# Altium footprint library All.PcbLib: 21 footprints (part 2 of 2)
Each footprint in its own frame and in the unit in brackets; x right, y up, seen from the top. Pads: shape width x height; smd on the part's side, far side on the other; paste and mask are expansions set on the pad; w line width, h text height; cw(c..) or ccw(c..) is an arc to the next point about the centre after c.
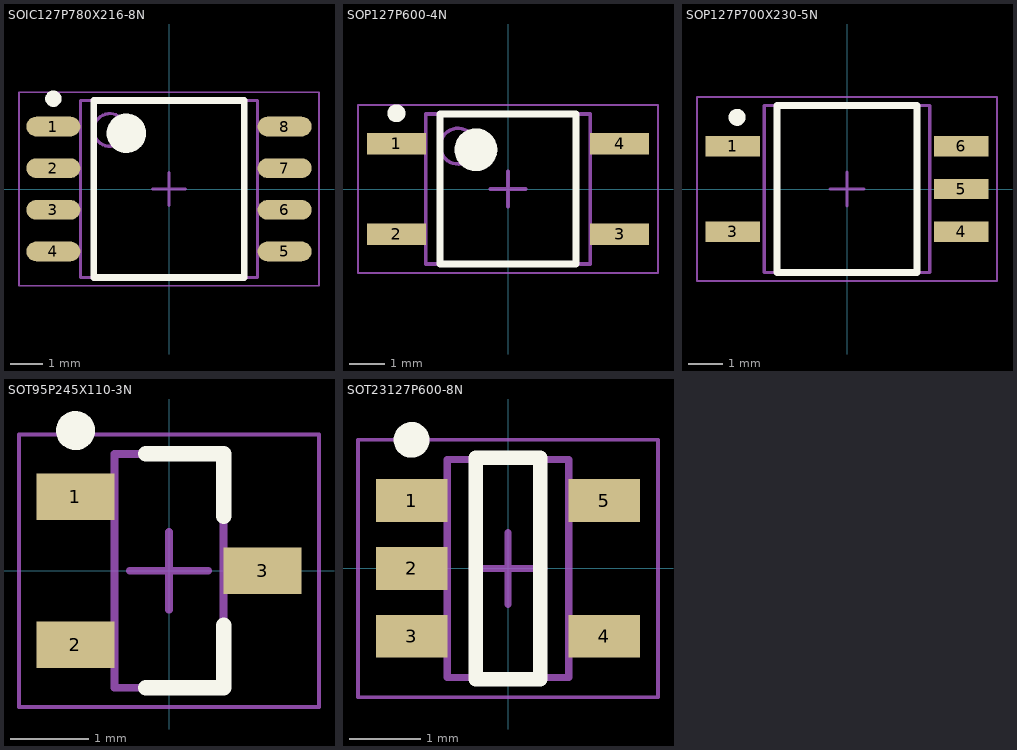
[diagram p1: the footprints below, top view; thin cyan lines are the x and y axes]

## SOIC127P780X216-8N [mm] "SOIC, 8-Leads, Body 5,28x5,28mm, Pitch 1,27mm, IPC Medium Density"
height 2.16
pads (8):
  oval 1.65x0.6 smd: 1(-3.525,1.905) 2(-3.525,0.635) 3(-3.525,-0.635) 4(-3.525,-1.905) 5(3.525,-1.905) 6(3.525,-0.635) 7(3.525,0.635) 8(3.525,1.905)
Top Overlay:
  circle w0.6: c-1.3,1.7 r0.3
  circle w0.25: c-3.525,2.755 r0.125
  lines w0.2: -2.3,-2.7 2.3,-2.7 2.3,2.7 -2.3,2.7 -2.3,-2.7
Top Assembly:
  circle w0.1: c-1.8,1.8 r0.5
  lines w0.1: -2.7,-2.7 2.7,-2.7 2.7,2.7 -2.7,2.7 -2.7,-2.7
Top Courtyard:
  lines w0.05: -4.575,-2.95 4.575,-2.95 4.575,2.95 -4.575,2.95 -4.575,-2.95
  lines w0.1: -0.5,0 0.5,0 ; 0,-0.5 0,0.5
3D body "SOIC127P780X216-8N.step": height 2.16, standoff 0, extent -3.9,-2.7 3.9,2.7

## SOP127P600-4N [mm] "VOM617A, SOP-4 Mini Flat Pack"
height 2.4
pads (4):
  rect 1.65x0.6 smd: 1(-3.125,1.27) 2(-3.125,-1.27) 3(3.125,-1.27) 4(3.125,1.27)
Top Overlay:
  circle w0.6: c-0.9,1.1 r0.3
  circle w0.25: c-3.125,2.12 r0.125
  lines w0.2: -1.9,-2.1 1.9,-2.1 1.9,2.1 -1.9,2.1 -1.9,-2.1
Top Assembly:
  circle w0.1: c-1.4,1.2 r0.5
  lines w0.1: -2.3,-2.1 2.3,-2.1 2.3,2.1 -2.3,2.1 -2.3,-2.1
Top Courtyard:
  lines w0.05: -4.2,-2.35 4.2,-2.35 4.2,2.35 -4.2,2.35 -4.2,-2.35
  lines w0.1: -0.5,0 0.5,0 ; 0,-0.5 0,0.5
3D body "SOP127P600-8N.step": height 2.4, standoff 0, extent -3.375,-2.1 3.375,2.1

## SOP127P700X230-5N [mm] "VOM453, SOP-5, 5-Leads, Body 4,53x7,00mm, Pitch 1,27mm, IPC Medium Density"
height 2.3
pads (5):
  rect 1.6x0.6 smd: 1(-3.35,1.25) 3(-3.35,-1.25) 4(3.35,-1.25) 5(3.35,0) 6(3.35,1.25)
Top Overlay:
  circle w0.25: c-3.225,2.1 r0.125
  lines w0.2: -2.05,-2.45 -2.05,2.45 2.05,2.45 2.05,-2.45 -2.05,-2.45
Top Assembly:
  lines w0.1: -2.425,-2.45 2.425,-2.45 2.425,2.45 -2.425,2.45 -2.425,-2.45
Top Courtyard:
  lines w0.05: -4.4,-2.7 4.4,-2.7 4.4,2.7 -4.4,2.7 -4.4,-2.7
  lines w0.1: -0.5,0 0.5,0 ; 0,-0.5 0,0.5
3D body "SOP127P700X230-5N.step": height 2.3, standoff 0, extent -3.65,-2.45 3.65,2.45

## SOT95P245X110-3N [mm] "SOT23, 3-Leads, Body 2,90x2,45mm, Pitch 0,95mm, IPC Medium Density"
height 1.1
pads (3):
  rect 1x0.6 smd: 1(-1.2,0.95) 2(-1.2,-0.95) 3(1.2,0)
Top Overlay:
  circle w0.25: c-1.2,1.8 r0.125
  lines w0.2: -0.3,-1.5 0.7,-1.5 0.7,-0.7 ; -0.3,1.5 0.7,1.5 0.7,0.7
Top Assembly:
  lines w0.1: -0.7,-1.5 -0.7,1.5 0.7,1.5 0.7,-1.5 -0.7,-1.5
Top Courtyard:
  lines w0.05: -1.925,-1.75 -1.925,1.75 1.925,1.75 1.925,-1.75 -1.925,-1.75
  lines w0.1: -0.5,0 0.5,0 ; 0,-0.5 0,0.5
3D body "SOT95P245X110-3N.step": height 1.1, standoff 0, extent -1.3,-1.5 1.3,1.5

## SOT23127P600-8N [mm] "SOT23-5L LD2981"
height 1.45
pads (5):
  rect 1x0.6 smd: 1(-1.35,0.95) 2(-1.35,0) 3(-1.35,-0.95) 4(1.35,-0.95) 5(1.35,0.95)
Top Overlay:
  circle w0.25: c-1.35,1.8 r0.125
  lines w0.2: -0.45,-1.55 -0.45,1.55 0.45,1.55 0.45,-1.55 -0.45,-1.55
Top Assembly:
  lines w0.1: -0.85,-1.525 0.85,-1.525 0.85,1.525 -0.85,1.525 -0.85,-1.525
Top Courtyard:
  lines w0.05: -2.1,-1.8 2.1,-1.8 2.1,1.8 -2.1,1.8 -2.1,-1.8
  lines w0.1: -0.5,0 0.5,0 ; 0,-0.5 0,0.5
3D body "SOT23127P600-8N.step": height 1.45, standoff 0, extent -1.5,-1.525 1.5,1.525